# Altium schematic symbol library 2JE04.SchLib: 1 symbol
Pins are listed as number, name and electrical type; pins without a type are passive.

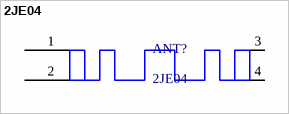
[diagram p0: symbol 2JE04]

## 2JE04
designator ANT?
footprint 2JE04
pins: 1 INPUT, 2 GND, 3 NC, 4 NC